# Altium schematic symbol library SnapEDAsch.SchLib: 1 symbol
Pins are listed as number, name and electrical type; pins without a type are passive.

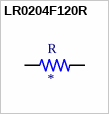
[diagram p0: symbol LR0204F120R]

## LR0204F120R
designator R
120 Ohms Â±1% 0.25W, 1/4W Through Hole Resistor Axial Metal Film; MF: TE Connectivity; MP: LR0204F120R; TE_purchase_URL: https://www.te.com/usa-en/product-1614986-1.html?te_bu=Cor&te_type=disp&te_campaign=seda_glo_cor-seda-global-disp-prtnr-fy19-seda-model-bom-cta_sma-317_1&elqCampaignId=32493; Package: Axial TE Connectivity Passive Product; Value: *; Availability: Unavailable; SnapEDA_Link: https://www.snapeda.com/parts/LR0204F120R/TE%20Connectivity%20Passive%20Product/view-part/3228002/?ref=snap; Price: None
footprint RESAD640W45L370D200
pins: 1, 2